# Altium footprint library Motion Controller.PcbLib: 208 footprints (part 8 of 13)
Each footprint in its own frame and in the unit in brackets; x right, y up, seen from the top. Pads: shape width x height; smd on the part's side, far side on the other; paste and mask are expansions set on the pad; w line width, h text height; cw(c..) or ccw(c..) is an arc to the next point about the centre after c.
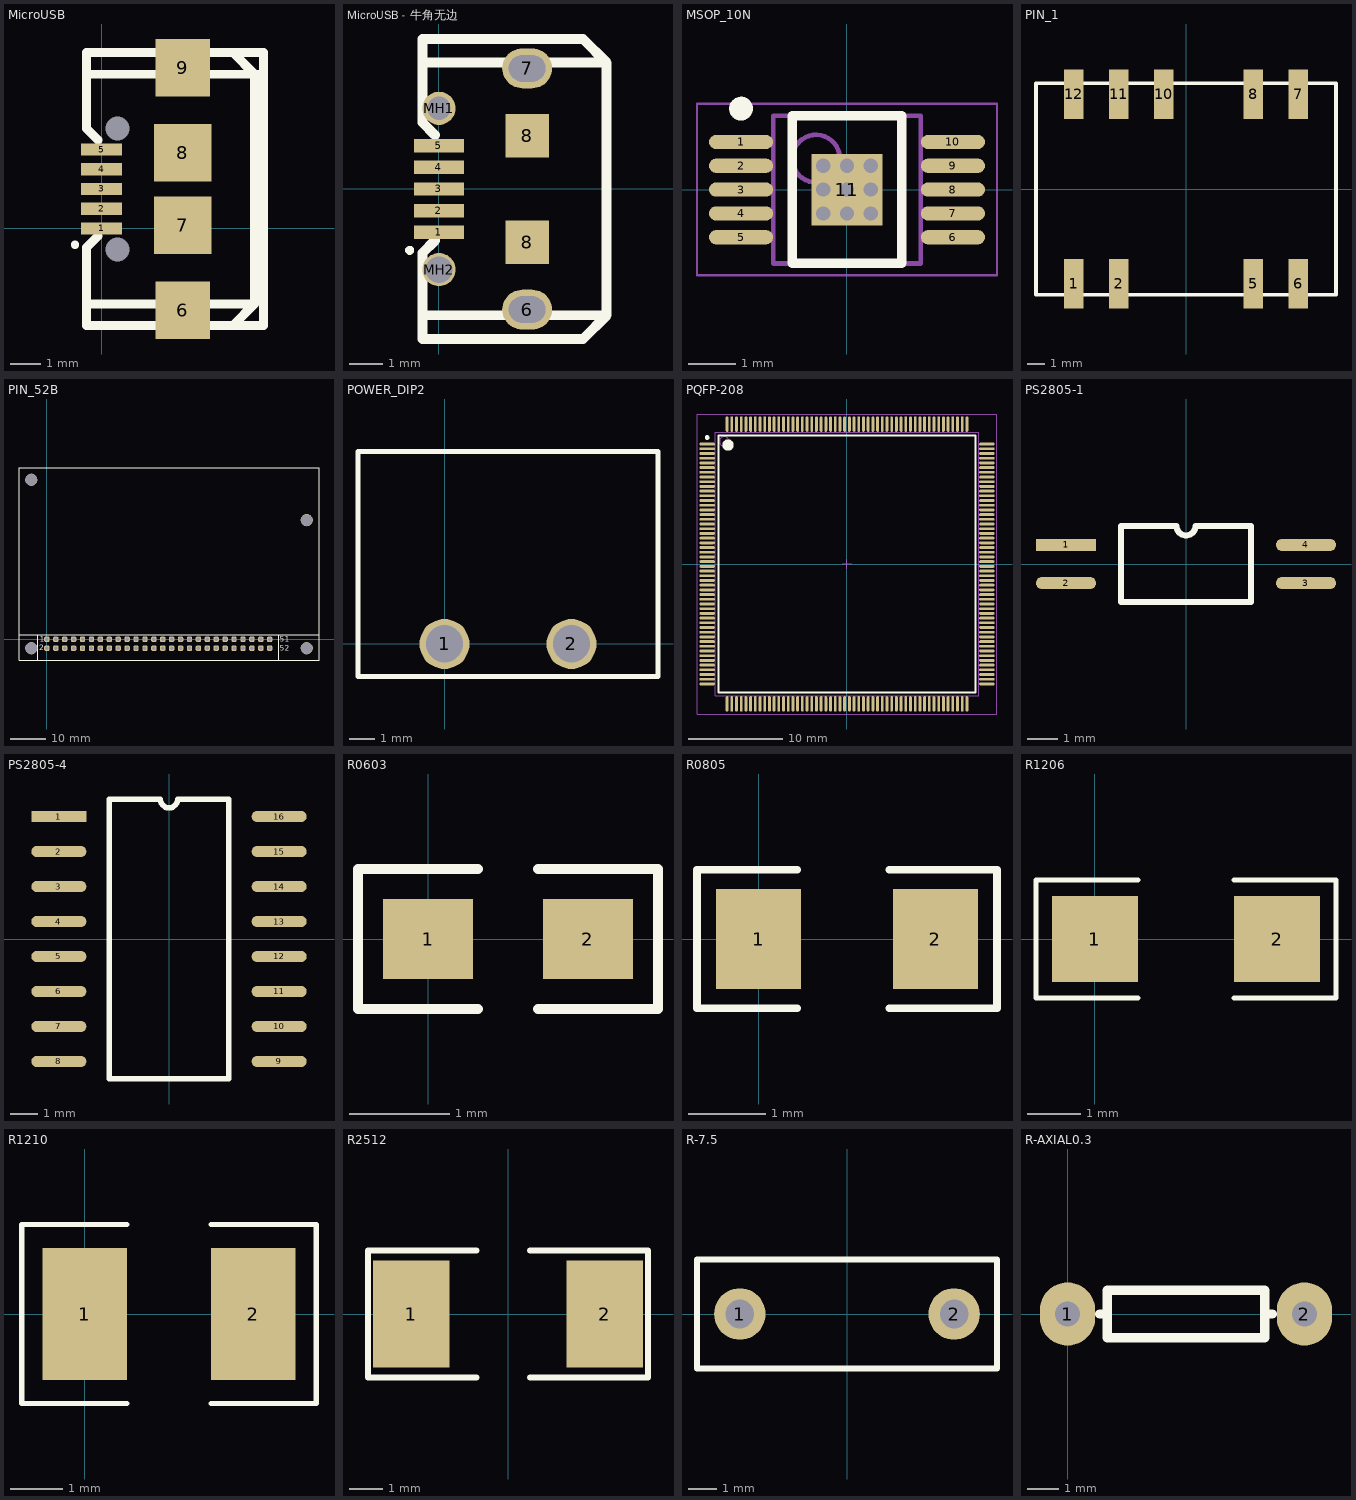
[diagram p7: the footprints below, top view; thin cyan lines are the x and y axes]

## MicroUSB [mm] "Connector; USB1.1, Type B, SM; 4 Position; Right Angle"
height 11
pads (11):
  rect 1.35x0.4 smd mask+0.001: 1(0,0) 2(0,0.65) 3(0,1.3) 4(0,1.95) 5(0,2.6)
  rect 1.8x1.9 smd: 6(2.675,-2.7) 9(2.675,5.3)
  rect 1.9x1.9 smd: 7(2.675,0.1) 8(2.675,2.5)
  round 0 hole 0.8 unplated mask+0.001: MH1(0.525,3.3) MH2(0.525,-0.7)
Top Overlay:
  circle w0.25: c-0.881,-0.542 r0.011
  lines w0.3: -0.452,-2.495 5.04,-2.495 ; -0.452,5.094 5.334,5.08 5.04,5.094 ; -0.127,-0.254 -0.5,-0.627 -0.5,-3.209 4.326,-3.209 5.04,-2.495 ; -0.127,2.921 -0.5,3.294 -0.5,5.808 4.326,5.808 5.04,5.094 ; 3.818,5.808 5.334,5.808 5.334,-3.209 3.945,-3.209 ; 5.04,-2.495 5.04,5.094
3D body: height 2.79, standoff -0.28, extent -0.11,-3.091 5.515,5.709

## MicroUSB - 牛角无边 [mm] "Connector; USB1.1, Type B, SM; 4 Position; Right Angle"
height 11
pads (11):
  rect 1.5x0.4 smd mask+0.001: 1(0,-1.3) 2(0,-0.65) 3(0,0) 4(0,0.65) 5(0,1.3)
  oval 1.5x1.2 hole 0.8 slot 1.1 at 0 deg: 6(2.65,-3.625) 7(2.65,3.625)
  rect 1.3x1.3 smd: 8(2.65,-1.6) 8(2.65,1.6)
  round 1 hole 0.7 unplated mask+0.001: MH1(0,2.425)
  round 1 hole 0.8 unplated mask+0.001: MH2(0,-2.425)
Top Overlay:
  circle w0.25: c-0.881,-1.842 r0.011
  lines w0.3: -0.452,-3.795 5.04,-3.795 ; -0.452,3.795 5.026,3.795 ; -0.127,-1.554 -0.5,-1.927 -0.5,-4.509 4.326,-4.509 5.04,-3.795 ; -0.127,1.621 -0.5,1.994 -0.5,4.508 4.326,4.508 5.04,3.794 ; 5.026,3.78 5.04,3.794 ; 5.04,-3.795 5.04,3.794
3D body: height 2.79, standoff -0.28, extent -0.11,-4.391 5.515,4.409

## MSOP_10N [mm] "TSSOP, 10-Leads, Body 3.00x3.00mm, Pitch 0.50mm, IPC Medium Density"
height 1.6
pads (11):
  oval 1.35x0.3 smd: 1(-2.225,1) 2(-2.225,0.5) 3(-2.225,0) 4(-2.225,-0.5) 5(-2.225,-1) 6(2.225,-1) 7(2.225,-0.5) 8(2.225,0) 9(2.225,0.5) 10(2.225,1)
  rect 1.5x1.5 smd: 11(0,0)
via -0.5,0.5 diameter 0.4 hole 0.3
via -0.5,0 diameter 0.4 hole 0.3
via -0.5,-0.5 diameter 0.4 hole 0.3
via 0.5,-0.5 diameter 0.4 hole 0.3
via 0.5,0 diameter 0.4 hole 0.3
via 0.5,0.5 diameter 0.4 hole 0.3
via 0,-0.5 diameter 0.4 hole 0.3
via 0,0.5 diameter 0.4 hole 0.3
via 0,0 diameter 0.4 hole 0.3
Top Overlay:
  circle w0.25: c-2.225,1.7 r0.125
  lines w0.2: -1.15,-1.55 1.15,-1.55 1.15,1.55 -1.15,1.55 -1.15,-1.55
Mechanical 13:
  circle w0.1: c-0.65,0.65 r0.5
  lines w0.1: -1.55,-1.55 1.55,-1.55 1.55,1.55 -1.55,1.55 -1.55,-1.55
Mechanical 15:
  lines w0.05: -3.15,-1.8 3.15,-1.8 3.15,1.8 -3.15,1.8 -3.15,-1.8
  lines w0.1: -0.5,0 0.5,0 ; 0,-0.5 0,0.5
3D body: height 1.6, standoff 0.1, extent -1.55,-1.55 1.55,1.55

## PIN_1 [mm]
pads (9):
  rect 1.1x2.8 smd: 1(-6.35,-5.37) 2(-3.81,-5.37) 5(3.81,-5.37) 6(6.35,-5.37) 7(6.35,5.37) 8(3.81,5.37) 10(-1.27,5.37) 11(-3.81,5.37) 12(-6.35,5.37)
Top Overlay:
  lines w0.2: -8.5,-6 8.5,-6 8.5,6 -8.5,6 -8.5,-6

## PIN_52B [mil]
pads (56):
  rrect50% 60x60 hole 40.16 square: 1(0,0)
  rrect50% 60x60 hole 40.16: 2(0,-100) 3(100,0) 4(100,-100) 5(200,0) 6(200,-100) 7(300,0) 8(300,-100) 9(400,0) 10(400,-100) 11(500,0) 12(500,-100) 13(600,0) 14(600,-100) 15(700,0) 16(700,-100) 17(800,0) 18(800,-100) 19(900,0) 20(900,-100) 21(1000,0) 22(1000,-100) 23(1100,0) 24(1100,-100) 25(1200,0) 26(1200,-100) 27(1300,0) 28(1300,-100) 29(1400,0) 30(1400,-100) 31(1500,0) 32(1500,-100) 33(1600,0) 34(1600,-100) 35(1700,0) 36(1700,-100) 37(1800,0) 38(1800,-100) 39(1900,0) 40(1900,-100) 41(2000,0) 42(2000,-100) 43(2100,0) 44(2100,-100) 45(2200,0) 46(2200,-100) 47(2300,0) 48(2300,-100) 49(2400,0) 50(2400,-100) 51(2500,0) 52(2500,-100)
  round 137.8 hole 125.98: SB0(-175.2,-100) SB1(2915.35,-100) SB2(-175.2,1789.76) SB3(2915.35,1337.01)
Top Overlay:
  lines w7.87: -312.99,48.43 -100,48.43 ; 3053.15,48.43 2600,48.43 ; -100,-237.8 -312.99,-237.8 -312.99,1927.56 3053.15,1927.56 3053.15,-237.8 2600,-237.8 ; -100,-237.8 2600,-237.8 ; -100,-237.8 -100,48.43 ; -100,48.43 2600,48.43 ; 2600,-237.8 2600,48.43
  text "51" at 2610,-30 h60
  text "52" at 2610,-130 h60
  text "1" at -80,-30 h60
  text "2" at -85,-125 h60

## POWER_DIP2 [mm]
pads (2):
  round 2 hole 1.5: 1(0,0) 2(5.08,0)
Top Overlay:
  lines w0.2: -3.46,-1.3 -3.46,7.7 8.54,7.7 8.54,-1.3 -3.46,-1.3

## PQFP-208 [mm]
height 4.1
pads (208):
  oval 1.65x0.3 smd: 1(-14.875,12.75) 2(-14.875,12.25) 3(-14.875,11.75) 4(-14.875,11.25) 5(-14.875,10.75) 6(-14.875,10.25) 7(-14.875,9.75) 8(-14.875,9.25) 9(-14.875,8.75) 10(-14.875,8.25) 11(-14.875,7.75) 12(-14.875,7.25) 13(-14.875,6.75) 14(-14.875,6.25) 15(-14.875,5.75) 16(-14.875,5.25) 17(-14.875,4.75) 18(-14.875,4.25) 19(-14.875,3.75) 20(-14.875,3.25) 21(-14.875,2.75) 22(-14.875,2.25) 23(-14.875,1.75) 24(-14.875,1.25) 25(-14.875,0.75) 26(-14.875,0.25) 27(-14.875,-0.25) 28(-14.875,-0.75) 29(-14.875,-1.25) 30(-14.875,-1.75) 31(-14.875,-2.25) 32(-14.875,-2.75) 33(-14.875,-3.25) 34(-14.875,-3.75) 35(-14.875,-4.25) 36(-14.875,-4.75) 37(-14.875,-5.25) 38(-14.875,-5.75) 39(-14.875,-6.25) 40(-14.875,-6.75) 41(-14.875,-7.25) 42(-14.875,-7.75) 43(-14.875,-8.25) 44(-14.875,-8.75) 45(-14.875,-9.25) 46(-14.875,-9.75) 47(-14.875,-10.25) 48(-14.875,-10.75) 49(-14.875,-11.25) 50(-14.875,-11.75) 51(-14.875,-12.25) 52(-14.875,-12.75) 105(14.875,-12.75) 106(14.875,-12.25) 107(14.875,-11.75) 108(14.875,-11.25) 109(14.875,-10.75) 110(14.875,-10.25) 111(14.875,-9.75) 112(14.875,-9.25) 113(14.875,-8.75) 114(14.875,-8.25) 115(14.875,-7.75) 116(14.875,-7.25) 117(14.875,-6.75) 118(14.875,-6.25) 119(14.875,-5.75) 120(14.875,-5.25) 121(14.875,-4.75) 122(14.875,-4.25) 123(14.875,-3.75) 124(14.875,-3.25) 125(14.875,-2.75) 126(14.875,-2.25) 127(14.875,-1.75) 128(14.875,-1.25) 129(14.875,-0.75) 130(14.875,-0.25) 131(14.875,0.25) 132(14.875,0.75) 133(14.875,1.25) 134(14.875,1.75) 135(14.875,2.25) 136(14.875,2.75) 137(14.875,3.25) 138(14.875,3.75) 139(14.875,4.25) 140(14.875,4.75) 141(14.875,5.25) 142(14.875,5.75) 143(14.875,6.25) 144(14.875,6.75) 145(14.875,7.25) 146(14.875,7.75) 147(14.875,8.25) 148(14.875,8.75) 149(14.875,9.25) 150(14.875,9.75) 151(14.875,10.25) 152(14.875,10.75) 153(14.875,11.25) 154(14.875,11.75) 155(14.875,12.25) 156(14.875,12.75)
  oval 0.3x1.65 smd: 53(-12.75,-14.875) 54(-12.25,-14.875) 55(-11.75,-14.875) 56(-11.25,-14.875) 57(-10.75,-14.875) 58(-10.25,-14.875) 59(-9.75,-14.875) 60(-9.25,-14.875) 61(-8.75,-14.875) 62(-8.25,-14.875) 63(-7.75,-14.875) 64(-7.25,-14.875) 65(-6.75,-14.875) 66(-6.25,-14.875) 67(-5.75,-14.875) 68(-5.25,-14.875) 69(-4.75,-14.875) 70(-4.25,-14.875) 71(-3.75,-14.875) 72(-3.25,-14.875) 73(-2.75,-14.875) 74(-2.25,-14.875) 75(-1.75,-14.875) 76(-1.25,-14.875) 77(-0.75,-14.875) 78(-0.25,-14.875) 79(0.25,-14.875) 80(0.75,-14.875) 81(1.25,-14.875) 82(1.75,-14.875) 83(2.25,-14.875) 84(2.75,-14.875) 85(3.25,-14.875) 86(3.75,-14.875) 87(4.25,-14.875) 88(4.75,-14.875) 89(5.25,-14.875) 90(5.75,-14.875) 91(6.25,-14.875) 92(6.75,-14.875) 93(7.25,-14.875) 94(7.75,-14.875) 95(8.25,-14.875) 96(8.75,-14.875) 97(9.25,-14.875) 98(9.75,-14.875) 99(10.25,-14.875) 100(10.75,-14.875) 101(11.25,-14.875) 102(11.75,-14.875) 103(12.25,-14.875) 104(12.75,-14.875) 157(12.75,14.875) 158(12.25,14.875) 159(11.75,14.875) 160(11.25,14.875) 161(10.75,14.875) 162(10.25,14.875) 163(9.75,14.875) 164(9.25,14.875) 165(8.75,14.875) 166(8.25,14.875) 167(7.75,14.875) 168(7.25,14.875) 169(6.75,14.875) 170(6.25,14.875) 171(5.75,14.875) 172(5.25,14.875) 173(4.75,14.875) 174(4.25,14.875) 175(3.75,14.875) 176(3.25,14.875) 177(2.75,14.875) 178(2.25,14.875) 179(1.75,14.875) 180(1.25,14.875) 181(0.75,14.875) 182(0.25,14.875) 183(-0.25,14.875) 184(-0.75,14.875) 185(-1.25,14.875) 186(-1.75,14.875) 187(-2.25,14.875) 188(-2.75,14.875) 189(-3.25,14.875) 190(-3.75,14.875) 191(-4.25,14.875) 192(-4.75,14.875) 193(-5.25,14.875) 194(-5.75,14.875) 195(-6.25,14.875) 196(-6.75,14.875) 197(-7.25,14.875) 198(-7.75,14.875) 199(-8.25,14.875) 200(-8.75,14.875) 201(-9.25,14.875) 202(-9.75,14.875) 203(-10.25,14.875) 204(-10.75,14.875) 205(-11.25,14.875) 206(-11.75,14.875) 207(-12.25,14.875) 208(-12.75,14.875)
Top Overlay:
  circle w0.6: c-12.65,12.65 r0.3
  circle w0.25: c-14.875,13.45 r0.125
  lines w0.2: -13.65,-13.65 13.65,-13.65 13.65,13.65 -13.65,13.65 -13.65,-13.65
Mechanical 13:
  circle w0.1: c-13.05,13.05 r0.5
  lines w0.1: -14,-14 14,-14 14,14 -14,14 -14,-14
Mechanical 15:
  lines w0.1: -0.5,0 0.5,0 ; 0,-0.5 0,0.5 ; -15.95,-15.95 15.95,-15.95 15.95,15.95 -15.95,15.95 -15.95,-15.95
3D body: height 4.1, standoff 0.25, extent -14,-14 14,14

## PS2805-1 [mm]
pads (4):
  rect 2x0.4 smd: 1(-4,0.635)
  oval 2x0.4 smd: 2(-4,-0.635) 3(4,-0.635) 4(4,0.635)
Top Overlay:
  lines w0.2: -2.165,-1.27 2.165,-1.27 2.165,1.27 0.318,1.27 cw(c0,1.27) -0.318,1.27 -2.165,1.27 -2.165,-1.27

## PS2805-4 [mm]
pads (16):
  rect 2x0.4 smd: 1(-4,4.445)
  oval 2x0.4 smd: 2(-4,3.175) 3(-4,1.905) 4(-4,0.635) 5(-4,-0.635) 6(-4,-1.905) 7(-4,-3.175) 8(-4,-4.445) 9(4,-4.445) 10(4,-3.175) 11(4,-1.905) 12(4,-0.635) 13(4,0.635) 14(4,1.905) 15(4,3.175) 16(4,4.445)
Top Overlay:
  lines w0.2: -2.165,-5.08 -2.165,5.08 -0.318,5.08 ccw(c0,5.08) 0.318,5.08 2.165,5.08 2.165,-5.08 -2.165,-5.08

## R0603 [mm]
pads (2):
  rect 0.9x0.8 smd: 1(0,0) 2(1.6,0)
Top Overlay:
  lines w0.1: 0.5,-0.7 -0.7,-0.7 -0.7,0.7 0.5,0.7 ; 1.1,-0.7 2.3,-0.7 2.3,0.7 1.1,0.7

## R0805 [mm]
pads (2):
  rect 1.1x1.3 smd: 1(0,0) 2(2.3,0)
Top Overlay:
  lines w0.1: 0.5,-0.9 -0.8,-0.9 -0.8,0.9 0.5,0.9 ; 1.7,-0.9 3.1,-0.9 3.1,0.9 1.7,0.9

## R1206 [mm]
pads (2):
  rect 1.6x1.6 smd: 1(0,0) 2(3.4,0)
Top Overlay:
  lines w0.1: 0.8,-1.1 -1.1,-1.1 -1.1,1.1 0.8,1.1 ; 2.6,-1.1 4.5,-1.1 4.5,1.1 2.6,1.1

## R1210 [mm]
pads (2):
  rect 1.6x2.5 smd: 1(0,0) 2(3.2,0)
Top Overlay:
  lines w0.1: 0.8,-1.7 -1.2,-1.7 -1.2,1.7 0.8,1.7 ; 2.4,-1.7 4.4,-1.7 4.4,1.7 2.4,1.7

## R2512 [mm] "1W"
pads (2):
  rect 2.3x3.2 smd: 1(-2.9,0) 2(2.9,0)
Top Overlay:
  lines w0.178: -0.95,-1.9 -4.2,-1.9 -4.2,1.9 -0.95,1.9 ; 0.654,-1.9 4.2,-1.9 4.2,1.9 0.654,1.9
3D body: height 0.64, standoff 0.02, extent -3.034,-1.578 3.265,1.622

## R-7.5 [mm] "Radial Cap, Thru-Hole; 2 Leads; 0.3 in Pin Spacing"
height 6
pads (2):
  round 1.8 hole 1: 1(-3.75,0) 2(3.75,0)
Top Overlay:
  lines w0.2: -5.25,-1.905 5.25,-1.905 5.25,1.905 -5.25,1.905 -5.25,-1.905

## R-AXIAL0.3 [mil]
pads (2):
  oval 70x80 hole 32: 1(0,0) 2(300,0)
Top Overlay:
  lines w12: 41,0 50,0 ; 259,0 250,0 ; 250,0 250,30 50,30 50,-30 250,-30 250,0